# Altium integrated library Test_Point.IntLib: 1 symbol
Pins are listed as number, name and electrical type; pins without a type are passive.

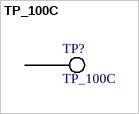
[diagram p0: symbol TP_100C]

## TP_100C
designator TP?  (no BOM)
Test point, circular, 1.00mm
footprint TP_100C (Test point, circular, 1.00mm)
pins: 1